# EAGLE library part CON-IDC10 (library Namenlos)
HARTING
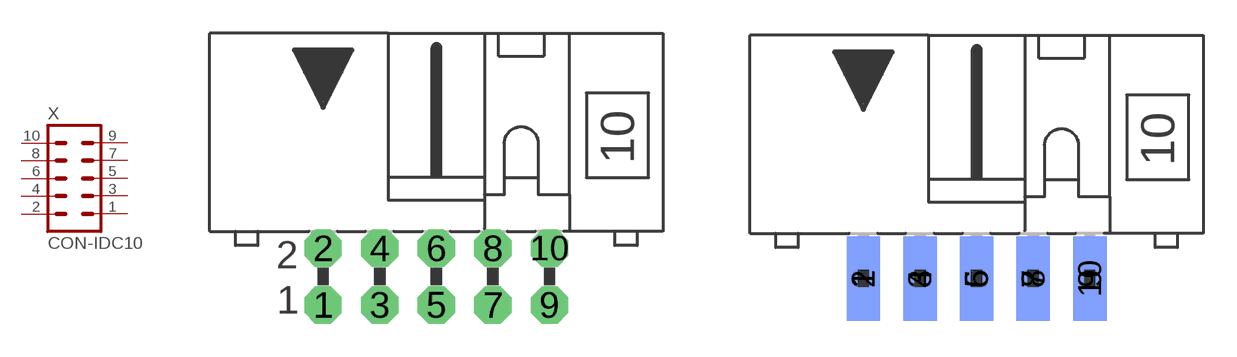
[diagram p11: symbol with the pads of ML10L; footprints ML10L, ML10_EDGE_SMD]

Designator prefix X

## CON-IDC10ML10L (OC_FARNELL: unknown; OC_NEWARK: unknown)  [ML10L]
1  1  pas
2  2  pas
3  3  pas
4  4  pas
5  5  pas
6  6  pas
7  7  pas
8  8  pas
9  9  pas
10  10  pas

## CON-IDC10EDGE_SMD  [ML10_EDGE_SMD]
Pads as for ML10L

## CON-IDC10ML10  [ML10]
Pads as for ML10L

## Footprint ML10L (pad centres in mm)
HARTING
drill 1.1 pad 1.676 octagon: 1 -5.08,-1.27; 2 -5.08,1.27; 3 -2.54,-1.27; 4 -2.54,1.27; 5 0,-1.27; 6 0,1.27; 7 2.54,-1.27; 8 2.54,1.27; 9 5.08,-1.27; 10 5.08,1.27

## Footprint ML10_EDGE_SMD (pad centres in mm)
smd 1.5 x 3.81: 1 -5.08,-6.35; 3 -2.54,-6.35; 5 0,-6.35; 7 2.54,-6.35; 9 5.08,-6.35
smd 1.5 x 3.81 bottom: 2 -5.08,-6.35; 4 -2.54,-6.35; 6 0,-6.35; 8 2.54,-6.35; 10 5.08,-6.35

## Footprint ML10 (pad centres in mm)
drill 1.1 pad 1.676 octagon: 1 -5.08,-1.27; 2 -5.08,1.27; 3 -2.54,-1.27; 4 -2.54,1.27; 5 0,-1.27; 6 0,1.27; 7 2.54,-1.27; 8 2.54,1.27; 9 5.08,-1.27; 10 5.08,1.27